# Altium schematic symbol library ic-sensor.SchLib: 13 symbols
Pins are listed as number, name and electrical type; pins without a type are passive.

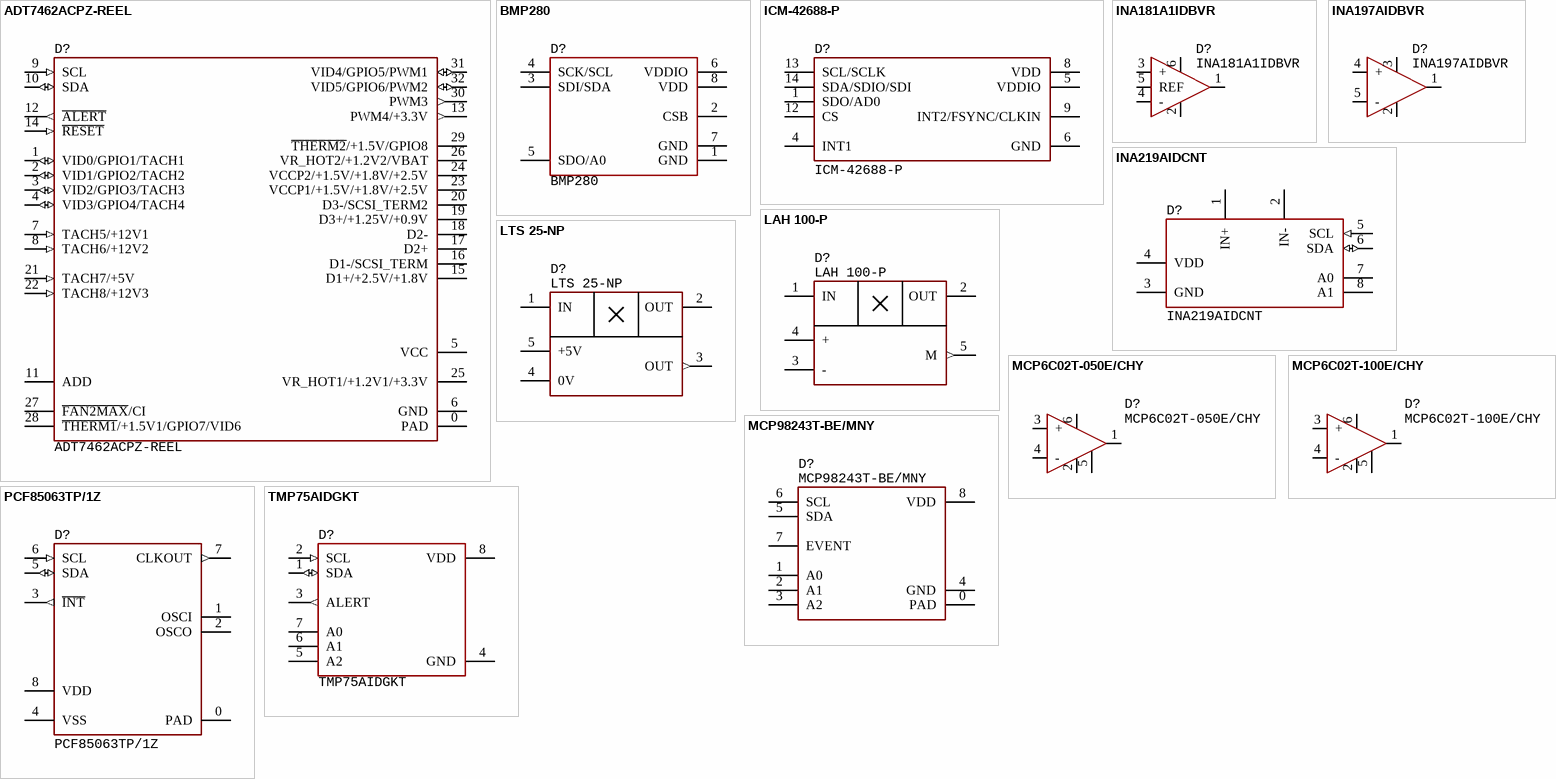
[diagram p0: symbols ADT7462ACPZ-REEL to TMP75AIDGKT]

## ADT7462ACPZ-REEL
designator D?
Fan Monitor, SMBus, LFCSP-32, supply 3...5.5V, -40...+125°C; Manufacturer: ON Semiconductor; HelpURL: https://ru.mouser.com/ProductDetail/onsemi/ADT7462ACPZ-REEL?qs=t2BMfLoP1KTMaQu%2FNbQCwA%3D%3D; Package: LFCSP-32 (5x5); PartNumber: ADT7462ACPZ-REEL
footprint 32-QFN (5x5, pitch 0.5) (5x5 mm, pitch 0.5 mm, power pad)
pins: 0 PAD, 1 VID0/GPIO1/TACH1 (io), 2 VID1/GPIO2/TACH2 (io), 3 VID2/GPIO3/TACH3 (io), 4 VID3/GPIO4/TACH4 (io), 5 VCC, 6 GND, 7 TACH5/+12V1 (in), 8 TACH6/+12V2 (in), 9 SCL (in), 10 SDA (io), 11 ADD, 12 ~{ALERT} (out), 13 PWM4/+3.3V (out), 14 ~{RESET} (in), 15 D1+/+2.5V/+1.8V, 16 D1-/SCSI_TERM, 17 D2+, 18 D2-, 19 D3+/+1.25V/+0.9V, 20 D3-/SCSI_TERM2, 21 TACH7/+5V (in), 22 TACH8/+12V3 (in), 23 VCCP1/+1.5V/+1.8V/+2.5V, 24 VCCP2/+1.5V/+1.8V/+2.5V, 25 VR_HOT1/+1.2V1/+3.3V, 26 VR_HOT2/+1.2V2/VBAT, 27 ~{FAN2MAX}/CI, 28 ~{THERM1}/+1.5V1/GPIO7/VID6, 29 ~{THERM2}/+1.5V/GPIO8, 30 PWM3 (out), 31 VID4/GPIO5/PWM1 (io), 32 VID5/GPIO6/PWM2 (io)

## BMP280
designator D?
Pressure sensor, I2C/SPI, 300...1100 hPa, ±0.12 hPa, LGA-8, supply 1.71...3.6V, -40...+85°C; Manufacturer: Bosch; Package: LGA-8; HelpURL: https://eu.mouser.com/ProductDetail/Bosch-Sensortec/BMP280?qs=QhAb4EtQfbUP9Z%252BCHM3Wyg%3D%3D; PartNumber: BMP280
footprint 8-LGA (2.5x2, 0.65 mm)
pins: 1 GND, 2 CSB, 3 SDI/SDA, 4 SCK/SCL, 5 SDO/A0, 6 VDDIO, 7 GND, 8 VDD

## ICM-42688-P
designator D?
IMU, 6-axis, I2C/I3C/SPI, 20 bit, ±16g, LGA-8, supply 1.71...3.6V, -40...+85°C; Manufacturer: TDK; Package: LGA-14; HelpURL: https://eu.mouser.com/ProductDetail/TDK-InvenSense/ICM-42688-P?qs=OlC7AqGiEDk8QrNAV728zw%3D%3D; PartNumber: ICM-42688-P
footprint 14-LGA (3x2.5, pitch 0.5 mm)
pins: 1 SDO/AD0, 4 INT1, 5 VDDIO, 6 GND, 8 VDD, 9 INT2/FSYNC/CLKIN, 12 CS, 13 SCL/SCLK, 14 SDA/SDIO/SDI

## INA181A1IDBVR
designator D?
Current monitor, 350 kHz, 20V/V, max 26V,  supply 2.7...5.5V, SOT23-6,  -40...+125°C; Manufacturer: Texas Instruments; Package: SOT23-6; HelpURL: https://eu.mouser.com/ProductDetail/Texas-Instruments/INA181A1IDBVR?qs=5aG0NVq1C4wLgDhUNMFt2A%3D%3D; PartNumber: INA181A1IDBVR
footprint SOT23-6 (pitch 0.95 mm)
pins: 1 OUT (power), 2 GND (power), 3 +, 4 -, 5 REF, 6 VDD (power)

## INA197AIDBVR
designator D?
Current monitor, 500 kHz, 50V/V, max 80V,  supply 2.7...18V, SOT23-5,  -40...+125°C; Manufacturer: Texas Instruments; HelpURL: https://eu.mouser.com/ProductDetail/Texas-Instruments/INA197AIDBVR?qs=VBduBm9rCJRFzn96d6NyWw%3D%3D; Package: SOT23-5; PartNumber: INA197AIDBVR
footprint SOT23-5 (pitch 0.95 mm)
pins: 1 OUT (power), 2 GND (power), 3 VDD (power), 4 +, 5 -

## INA219AIDCNT
designator D?
V/I monitor, 11b, ±1%, I2C/SMBus, supply 3...5.5V, SOT-23-8, -40...+125°C; Manufacturer: Texas Instruments; HelpURL: https://ru.mouser.com/ProductDetail/Texas-Instruments/INA219AIDCNT?qs=NNt36bEIu0sKLmMeh9D0sg%3D%3D; Package: SOT-23-8; PartNumber: INA219AIDCNT
footprint SOT23-8 (pitch 0.95 mm)
pins: 1 IN+, 2 IN-, 3 GND, 4 VDD, 5 SCL (in), 6 SDA (io), 7 A0, 8 A1

## LAH 100-P
designator D?
Current sensors, 100A, 0...200 kHz, 0.5%, supply 15V, 500 ns, -40...+85°C; Manufacturer: LEM; HelpURL: https://eu.mouser.com/ProductDetail/Vacuumschmelze/T60404-N4646-X412?qs=ePbE9GiMmvVUnsD%2Fqj9Ybg%3D%3D; Package: 33.25x21 mm; PartNumber: LAH 100-P
footprint SENSOR: LAH 100-P
pins: 1 IN, 2 OUT, 3 -, 4 +, 5 M (out)

## LTS 25-NP
designator D?
Current sensors, 25A, 0...200 kHz, 0.5%, supply 5V, 500 ns, -40...+85°C; Manufacturer: LEM; HelpURL: https://www.chipdip.ru/product0/8001789659; Package: LTS series; PartNumber: LTS 25-NP
footprint SENSOR: LTS 25-NP
pins: 1 IN, 2 OUT, 3 OUT (out), 4 0V, 5 +5V

## MCP6C02T-050E/CHY
designator D?
Current monitor, 500 kHz, input -3...+65V, ±3%, gain 50V/V, supply 2...5.5V, SOT23-6, -40...+125°C; Manufacturer: Microchip; HelpURL: https://ru.mouser.com/ProductDetail/Microchip-Technology/MCP6C02T-050E-CHY?qs=PqoDHHvF649UEQQr%2FDD6GQ%3D%3D; Package: SOT-23-6; Manufacturer Part Number: MCP6C02T-050E/CHY; Component Type: Sensors; PartNumber: MCP6C02T-050E/CHY
footprint SOT23-6 (pitch 0.95 mm)
pins: 1 OUT (power), 2 GND (power), 3 +, 4 -, 5 REF, 6 VDD (power)

## MCP6C02T-100E/CHY
designator D?
Current monitor, 1000 kHz, input -3...+65V, ±3%, gain 100V/V, supply 2...5.5V, SOT23-6, -40...+125°C; Manufacturer: Microchip; HelpURL: https://ru.mouser.com/ProductDetail/Microchip/MCP6C02T-100E-CHY?qs=sGAEpiMZZMv0NwlthflBi0QAfTo52oGRExo1Y%252B3txeI%3D; Package: SOT-23-6; PartNumber: MCP6C02T-100E/CHY
footprint SOT23-6 (pitch 0.95 mm)
pins: 1 OUT (power), 2 GND (power), 3 +, 4 -, 5 REF, 6 VDD (power)

## MCP98243T-BE/MNY
designator D?
Temp sensor, I2C/SMbus, ±1°C, DFN-8, supply 1.8...5.5V, -20...+125°C; Manufacturer: Microchip; HelpURL: https://eu.mouser.com/ProductDetail/Microchip-Technology-Atmel/MCP98243T-BE-MNY?qs=E6wAi2XWqcNJtSseAIsC%2Fg%3D%3D; Package: DFN-8; PartNumber: MCP98243T-BE/MNY
footprint 8-DFN (2x3, 0.5 mm)
pins: 0 PAD, 1 A0, 2 A1, 3 A2, 4 GND, 5 SDA, 6 SCL, 7 EVENT, 8 VDD

## PCF85063TP/1Z
designator D?
RTC Clock, I2C, supply 0.9...5.5V, DFN-8, -40...+85°C; Manufacturer: NXP; Package: DFN-8 (2x3); HelpURL: https://mouser.com/ProductDetail/NXP-Semiconductors/PCF85063ATL-1118?qs=fi7yB2oewZkLUjzuQ0vPOQ%3D%3D; PartNumber: PCF85063TP/1Z
footprint 8-DFN (2x3, 0.5 mm)
pins: 0 PAD, 1 OSCI, 2 OSCO, 3 ~{INT} (out), 4 VSS, 5 SDA (io), 6 SCL (in), 7 CLKOUT (out), 8 VDD

## TMP75AIDGKT
designator D?
Temp sensor, I2C/SMbus, 11b, ±2°C, MSOP-8, supply 2.7...5.5V, -5...+125°C; Manufacturer: Texas Instruments; Package: MSOP-8; HelpURL: https://ru.mouser.com/ProductDetail/Texas-Instruments/TMP75AIDGKT?qs=RnzODY3cU8sfZg7V0MZ4Cw%3D%3D; PartNumber: TMP75AIDGKT
footprint 8-MSOP (pitch 0.65 mm)
pins: 1 SDA (io), 2 SCL (in), 3 ALERT (out), 4 GND, 5 A2, 6 A1, 7 A0, 8 VDD